# Altium schematic symbol library n-mosfet_GSD_ESD.Schlib: 1 symbol
Pins are listed as number, name and electrical type; pins without a type are passive.

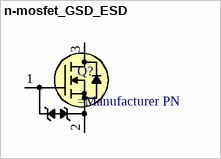
[diagram p0: symbol n-mosfet_GSD_ESD]

## n-mosfet_GSD_ESD
designator Q?
N-Channel MOSFET GSD  3 Terminal w/ Body Diode and ESD protected gate
pins: 1 G, 2 S, 3 D